# EAGLE library part HE700 (library Passives)
24V DPST reed relay
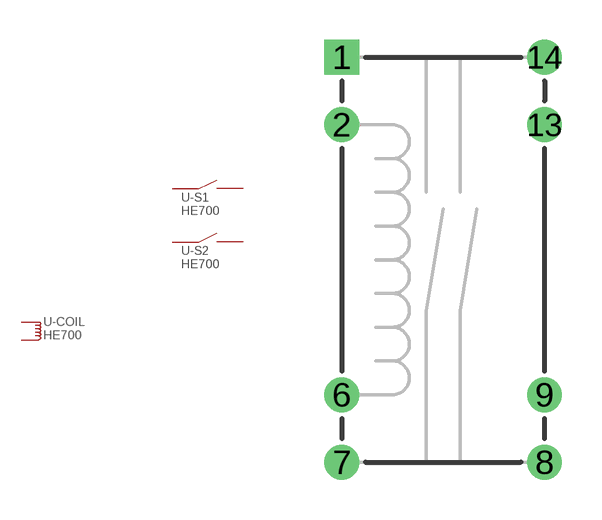
[diagram p5: symbol with the pads of RELAY-DPST; footprint RELAY-DPST]

Designator prefix U; gates -COIL=COIL -S1=SWITCH -S2=SWITCH

## HE700A2400  [RELAY-DPST]
1  -S2:P$1
2  -COIL:C
6  -COIL:A
7  -S2:P$2
8  -S1:P$2
14  -S1:P$1

## Footprint RELAY-DPST (pad centres in mm)
drill 0.8 square: 1 -3.81,7.62
drill 0.8: 2 -3.81,5.08; 6 -3.81,-5.08; 7 -3.81,-7.62; 8 3.81,-7.62; 9 3.81,-5.08; 13 3.81,5.08; 14 3.81,7.62